# Altium footprint library RLC.PcbLib: 144 footprints (part 9 of 9)
Each footprint in its own frame and in the unit in brackets; x right, y up, seen from the top. Pads: shape width x height; smd on the part's side, far side on the other; paste and mask are expansions set on the pad; w line width, h text height; cw(c..) or ccw(c..) is an arc to the next point about the centre after c.
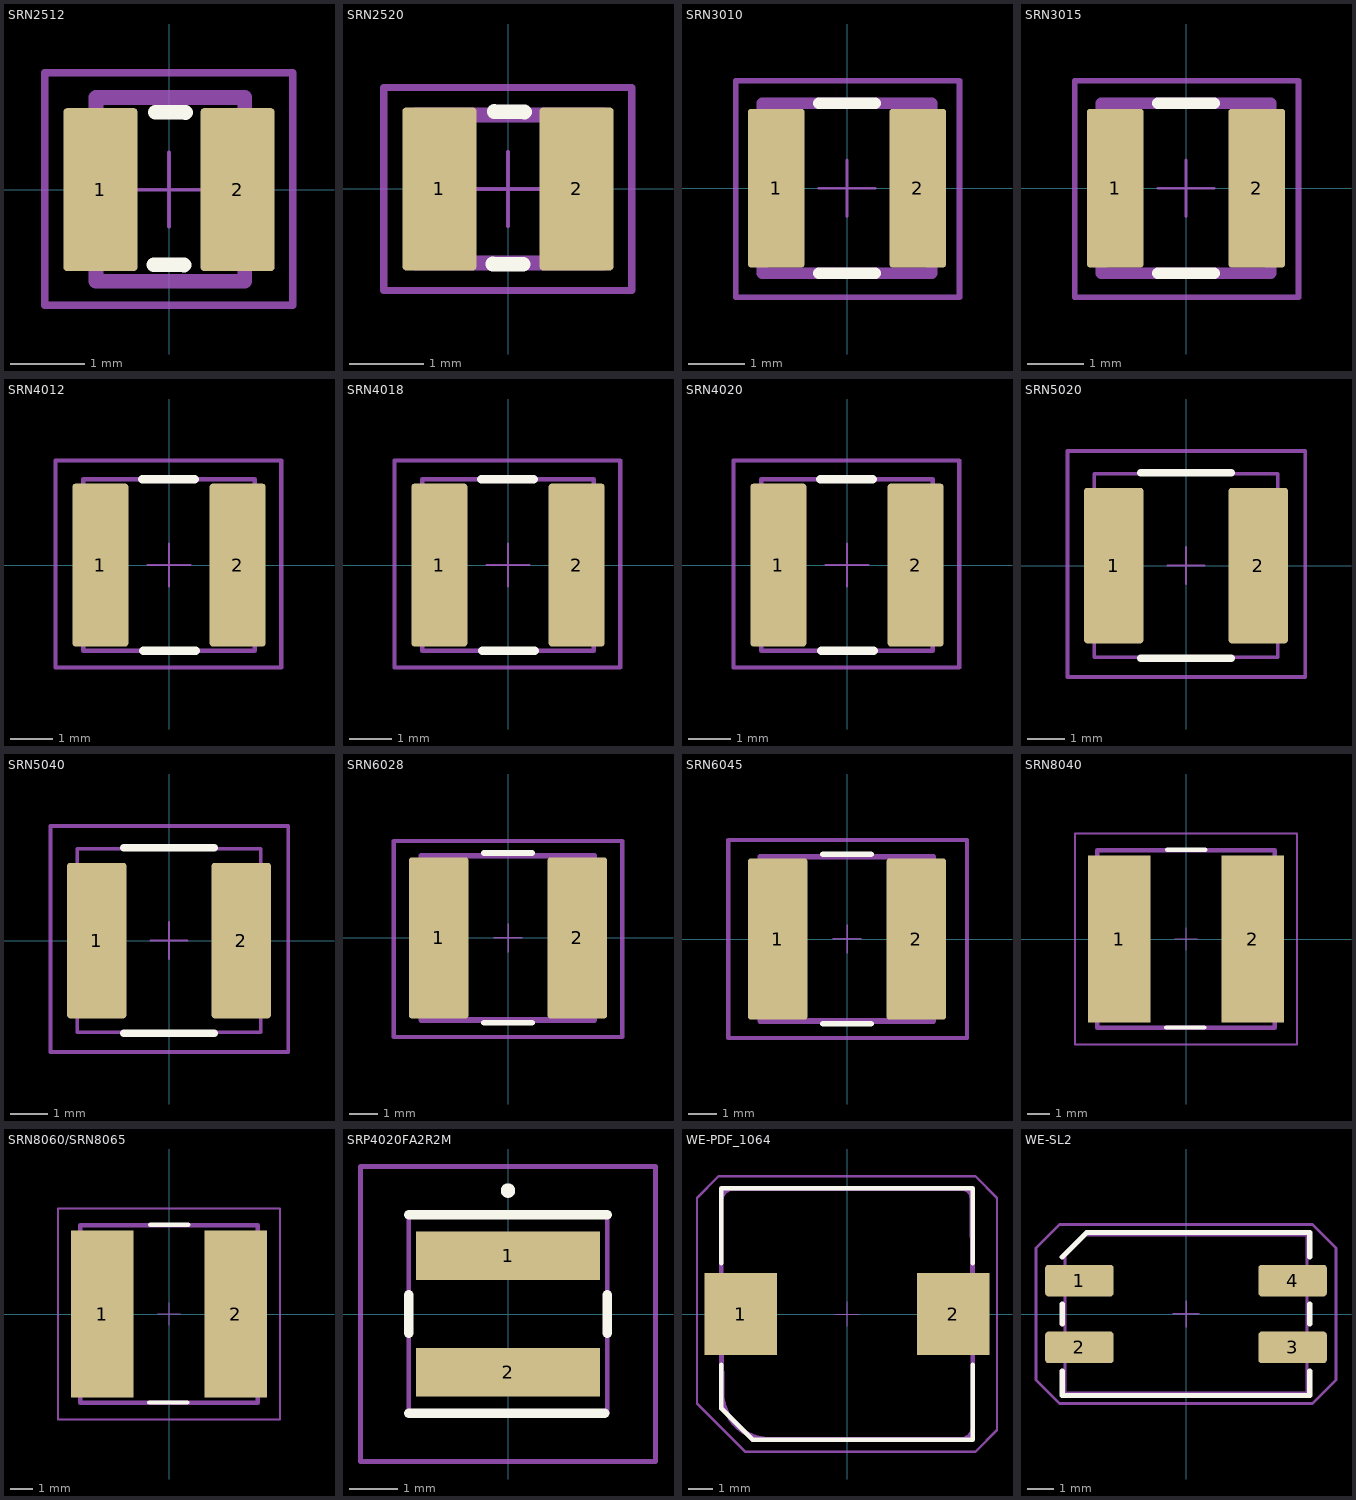
[diagram p8: the footprints below, top view; thin cyan lines are the x and y axes]

## SRN2512 [mm] "SMD 2.5?2.5?1.2 mm. magnetic-resin shielded power Inductor"
height 1.2
pads (2):
  rrect10% 1x2.2 smd: 1(-0.925,0) 2(0.925,0)
Top Overlay:
  lines w0.2: -0.206,-1.013 0.203,-1.016 ; -0.185,1.044 0.224,1.041
Top Designator:
  text ".Designator" at -2.994,1.987 h0.6
Top Assembly:
  lines w0.2: -0.983,-1.236 -0.983,1.245 1.022,1.245 1.022,-1.236 -0.983,-1.236
Top Courtyard:
  lines w0.05: -0.5,0 0.5,0 ; 0,-0.5 0,0.5
  lines w0.1: -1.676,-1.559 1.672,-1.559 1.672,1.575 -1.676,1.575 -1.676,-1.559
3D body "SRN2512-1R0M.stp": height 1.2, standoff 0, extent -1,-1.25 1,1.25

## SRN2520 [mm] "SMD 2.5?2.5?2.0 mm. magnetic-resin shielded power Inductor"
height 2
pads (2):
  rrect10% 1x2.2 smd: 1(-0.925,0) 2(0.925,0)
Top Overlay:
  lines w0.2: -0.206,-1.013 0.203,-1.016 ; -0.185,1.044 0.224,1.041
Top Designator:
  text ".Designator" at -2.989,1.837 h0.6
Top Assembly:
  lines w0.2: -1.241,-1 -1.241,1 1.285,1 1.285,-1 -1.241,-1
Top Courtyard:
  lines w0.05: -0.5,0 0.5,0 ; 0,-0.5 0,0.5
  lines w0.1: -1.676,-1.371 -1.676,1.369 1.672,1.369 1.672,-1.371 -1.676,-1.371
3D body "PNR2520 SMD Power Inductor.STEP": height 1.15, standoff -0.03, extent -1.25,-0.953 1.25,0.953

## SRN3010 [mm] "SMD 3.0?3.0?1.0 mm. magnetic-resin shielded power Inductor"
height 1
pads (2):
  rrect10% 1x2.8 smd: 1(-1.25,0) 2(1.25,0)
Top Overlay:
  lines w0.2: -0.5,-1.5 0.5,-1.5 ; -0.5,1.5 0.5,1.5
Top Designator:
  text ".Designator" at -3.033,2.408 h0.6
Top Assembly:
  lines w0.2: -1.5,-1.5 1.5,-1.5 1.5,1.5 -1.5,1.5 -1.5,-1.5
Top Courtyard:
  lines w0.05: -0.5,0 0.5,0 ; 0,-0.5 0,0.5
  lines w0.1: -1.966,-1.927 1.987,-1.927 1.987,1.899 -1.966,1.899 -1.966,-1.927
3D body "SRN3010-330M.stp": height 1.05, standoff 0.05, extent -1.501,-1.5 1.501,1.5

## SRN3015 [mm] "SMD 3.0?3.0?1.5 mm. magnetic-resin shielded power Inductor"
height 1.5
pads (2):
  rrect10% 1x2.8 smd: 1(-1.25,0) 2(1.25,0)
Top Overlay:
  lines w0.2: -0.5,-1.5 0.5,-1.5 ; -0.5,1.5 0.5,1.5
Top Designator:
  text ".Designator" at -3.033,2.408 h0.6
Top Assembly:
  lines w0.2: -1.5,-1.5 -1.5,1.5 1.5,1.5 1.5,-1.5 -1.5,-1.5
Top Courtyard:
  lines w0.05: -0.5,0 0.5,0 ; 0,-0.5 0,0.5
  lines w0.1: -1.966,-1.927 -1.966,1.899 1.987,1.899 1.987,-1.927 -1.966,-1.927
3D body "PNR3015 SMD Power Inductor.STEP": height 1.4, standoff 0.04, extent -1.5,-1.5 1.5,1.5

## SRN4012 [mm] "SMD 4.0?4.0?1.2 mm. magnetic-resin shielded power Inductor"
height 1.2
pads (2):
  rrect10% 1.3x3.8 smd: 1(-1.6,0) 2(1.6,0)
Top Overlay:
  lines w0.2: -0.624,2.004 0.605,2.004 ; -0.605,-2.004 0.624,-2.004
Top Designator:
  text ".Designator" at -2.999,2.8 h0.6
Top Assembly:
  lines w0.1: -2,-2 2,-2 2,2 -2,2 -2,-2
Top Courtyard:
  lines w0.05: -0.5,0 0.5,0 ; 0,-0.5 0,0.5
  lines w0.1: -2.648,-2.388 2.617,-2.388 2.617,2.439 -2.648,2.439 -2.648,-2.388
3D body "PNR4012 SMD Power Inductor.STEP": height 1.2, standoff 0.08, extent -2,-2 2,2

## SRN4018 [mm] "SMD 4.0?4.0?1.8 mm. magnetic-resin shielded power Inductor"
height 1.8
pads (2):
  rrect10% 1.3x3.8 smd: 1(-1.6,0) 2(1.6,0)
Top Overlay:
  lines w0.2: -0.624,2.004 0.605,2.004 ; -0.605,-2.004 0.624,-2.004
Top Designator:
  text ".Designator" at -2.999,2.8 h0.6
Top Assembly:
  lines w0.1: -2,-2 2,-2 2,2 -2,2 -2,-2
Top Courtyard:
  lines w0.05: -0.5,0 0.5,0 ; 0,-0.5 0,0.5
  lines w0.1: -2.648,-2.388 2.617,-2.388 2.617,2.439 -2.648,2.439 -2.648,-2.388
3D body "PNR4018 SMD Power Inductor.STEP": height 1.85, standoff 0.05, extent -2,-2 2,2

## SRN4020 [mm] "SMD 4.0?4.0?2.0 mm. magnetic-resin shielded power Inductor"
height 2
pads (2):
  rrect10% 1.3x3.8 smd: 1(-1.6,0) 2(1.6,0)
Top Overlay:
  lines w0.2: -0.624,2.004 0.605,2.004 ; -0.605,-2.004 0.624,-2.004
Top Designator:
  text ".Designator" at -2.999,2.8 h0.6
Top Assembly:
  lines w0.1: -2,-2 -2,2 2,2 2,-2 -2,-2
Top Courtyard:
  lines w0.05: -0.5,0 0.5,0 ; 0,-0.5 0,0.5
  lines w0.1: -2.648,-2.388 -2.648,2.439 2.617,2.439 2.617,-2.388 -2.648,-2.388
3D body "PNR4020 SMD Power Inductor.STEP": height 1.65, standoff 0.04, extent -2,-2 2,2

## SRN5020 [mm] "SMD 5.0?5.0?2.0 mm. magnetic-resin shielded power Inductor"
height 2
pads (2):
  rrect10% 1.6x4.2 smd: 1(-1.95,0) 2(1.95,0)
Top Overlay:
  lines w0.2: -1.229,-2.5 1.229,-2.5 ; -1.229,2.5 1.229,2.5
Top Designator:
  text ".Designator" at -2.999,3.55 h0.6
Top Assembly:
  lines w0.1: -2.475,-2.475 2.475,-2.475 2.475,2.475 -2.475,2.475 -2.475,-2.475
Top Courtyard:
  lines w0.05: -0.5,0 0.5,0 ; 0,-0.5 0,0.5
  lines w0.1: -3.202,-3.009 3.217,-3.009 3.217,3.092 -3.202,3.092 -3.202,-3.009
3D body "SRN5020-100M.stp": height 2.1, standoff 0.1, extent -2.5,-2.5 2.5,2.5

## SRN5040 [mm] "SMD 5.0?5.0?4.0 mm. magnetic-resin shielded power Inductor"
height 4
pads (2):
  rrect10% 1.6x4.2 smd: 1(-1.95,0) 2(1.95,0)
Top Overlay:
  lines w0.2: -1.229,-2.5 1.229,-2.5 ; -1.229,2.5 1.229,2.5
Top Designator:
  text ".Designator" at -2.999,3.55 h0.6
Top Assembly:
  lines w0.1: -2.475,-2.475 2.475,-2.475 2.475,2.475 -2.475,2.475 -2.475,-2.475
Top Courtyard:
  lines w0.05: -0.5,0 0.5,0 ; 0,-0.5 0,0.5
  lines w0.1: -3.202,-3.009 3.217,-3.009 3.217,3.092 -3.202,3.092 -3.202,-3.009
3D body "PNR5040 SMD Power Inductor.STEP": height 3.5, standoff 0.06, extent -2.5,-2.51 2.502,2.51

## SRN6028 [mm] "SMD 6.0?6.0?2.8 mm. magnetic-resin shielded power Inductor"
height 2.8
pads (2):
  rrect10% 2.1x5.7 smd: 1(-2.45,0) 2(2.45,0)
Top Overlay:
  lines w0.2: -0.85,-3 0.85,-3 ; -0.85,3 0.85,3
Top Designator:
  text ".Designator" at -2.999,4.05 h0.6
Top Assembly:
  lines w0.2: -3.07,-2.899 3.05,-2.899 3.05,2.902 -3.07,2.902 -3.07,-2.899
Top Courtyard:
  lines w0.05: -0.5,0 0.5,0 ; 0,-0.5 0,0.5
  lines w0.15: -4.041,-3.5 4.036,-3.5 4.036,3.423 -4.041,3.423 -4.041,-3.5
3D body "PNR6028 SMD Power Inductor.STEP": height 2.7, standoff 0.1, extent -3,-3 3,3

## SRN6045 [mm] "SMD 6.0?6.0?4.5 mm. magnetic-resin shielded power Inductor"
height 4.5
pads (2):
  rrect10% 2.1x5.7 smd: 1(-2.45,0) 2(2.45,0)
Top Overlay:
  lines w0.2: -0.85,-3 0.85,-3 ; -0.85,3 0.85,3
Top Designator:
  text ".Designator" at -2.999,4.05 h0.6
Top Assembly:
  lines w0.2: -3.07,-2.899 3.05,-2.899 3.05,2.902 -3.07,2.902 -3.07,-2.899
Top Courtyard:
  lines w0.05: -0.5,0 0.5,0 ; 0,-0.5 0,0.5
  lines w0.15: -4.198,-3.5 4.239,-3.5 4.239,3.5 -4.198,3.5 -4.198,-3.5
3D body "PNR6045 SMD Power Inductor.STEP": height 4.1, standoff 0.05, extent -3,-2.99 3,3.005

## SRN8040 [mm] "SMD 8.0?8.0?4.0 mm. magnetic-resin shielded power Inductor"
height 4
pads (2):
  rect 2.8x7.5 smd: 1(-3,0) 2(3,0)
Top Overlay:
  lines w0.2: -0.884,-3.983 0.816,-3.983 ; -0.843,4.016 0.857,4.016
Top Designator:
  text ".Designator" at -2.999,5.3 h0.6
Top Assembly:
  lines w0.2: -4,-4 -4,4 4,4 4,-4 -4,-4
Top Courtyard:
  lines w0.05: -0.5,0 0.5,0 ; 0,-0.5 0,0.5
  lines w0.1: -5,-4.75 -5,4.75 5,4.75 5,-4.75 -5,-4.75
3D body "PNR8040 SMD Power Inductor.STEP": height 4.1, standoff 0.1, extent -4,-4 4,4

## SRN8060/SRN8065 [mm] "SMD 8.0?8.0?6.5 mm. magnetic-resin shielded power Inductor"
height 6.5
pads (2):
  rect 2.8x7.5 smd: 1(-3,0) 2(3,0)
Top Overlay:
  lines w0.2: -0.884,-3.983 0.816,-3.983 ; -0.843,4.016 0.857,4.016
Top Designator:
  text ".Designator" at -2.999,5.3 h0.6
Top Assembly:
  lines w0.2: -4,-4 -4,4 4,4 4,-4 -4,-4
Top Courtyard:
  lines w0.05: -0.5,0 0.5,0 ; 0,-0.5 0,0.5
  lines w0.1: -5,-4.75 -5,4.75 5,4.75 5,-4.75 -5,-4.75
3D body "PNR8065 SMD Power Inductor.STEP": height 4.3, standoff 0.1, extent -4,-4 4,4

## SRP4020FA2R2M [mm]
pads (2):
  rect 3.8x1 smd: 1(0,1.2) 2(0,-1.2)
Top Overlay:
  lines w0.2: -2.05,-2.05 2,-2.05 ; -2.05,-0.4 -2.05,0.4 ; -2.05,2.05 2.05,2.05 ; 2.05,-0.4 2.05,0 ; 2.05,-0.2 2.05,0.4 ; 0,2.5 ccw(c0,2.55) 0,2.6 ; 0,2.5 cw(c0,2.55) 0,2.6 ; 0,2.5 ccw(c0,2.55) 0,2.6
Top Assembly:
  lines w0.1: -2.05,-2.05 -2.05,2.05 2.05,2.05 2.05,-2.05 -2.05,-2.05
Top Courtyard:
  lines w0.1: -3.05,-3.05 -3.05,3.05 3.05,3.05 3.05,-3.05 -3.05,-3.05
3D body "SRP4020FA-2R2M.stp": height 1.91, standoff 0, extent -2.05,-2.05 2.05,2.05

## WE-PDF_1064 [mm]
pads (2):
  rect 3x3.4 smd: 1(-4.4,0) 2(4.4,0)
Top Overlay:
  lines w0.2: -5.2,-2.1 -5.2,-3.9 -3.9,-5.2 5.2,-5.2 5.2,-2.1 ; -5.2,2.1 -5.2,5.2 5.2,5.2 5.2,2.1
Top Designator:
  text ".Designator" at -2.999,6.2 h0.6
Top Assembly:
  lines w0.2: -5.436,-1.5 -5.183,-1.5 -5.168,-3.219 ccw(c-3.205,-3.219) -3.205,-5.182 4.726,-5.183 ccw(c4.726,-4.709) 5.2,-4.709 5.2,-1.49 5.429,-1.49 5.429,1.5 5.183,1.5 5.155,4.804 ccw(c4.776,4.804) 4.776,5.182 -4.726,5.183 ccw(c-4.726,4.709) -5.2,4.709 -5.2,1.5 -5.436,1.5 -5.436,-1.5
Top Courtyard:
  lines w0.05: -0.5,0 0.5,0 ; 0,-0.5 0,0.5
  lines w0.1: -6.2,-3.7 -4.2,-5.7 5.3,-5.7 6.2,-4.8 6.2,4.8 5.3,5.7 -5.3,5.7 -6.2,4.8 -6.2,-3.7
3D body "step_temp.STEP": height 6.45, standoff 0.05, extent -5.1,-5.1 5.1,5.1

## WE-SL2 [mm]
pads (4):
  rrect20% 2.6x1.2 smd: 1(-4.05,1.27) 2(-4.05,-1.27) 3(4.05,-1.27) 4(4.05,1.27)
Top Overlay:
  lines w0.2: -4.7,-2.17 -4.7,-3.1 4.7,-3.1 4.7,-2.17 ; -4.7,-0.37 -4.7,0.37 ; -4.7,2.17 -3.77,3.1 4.7,3.1 4.7,2.17 ; 4.7,-0.37 4.7,0.37
Top Designator:
  text ".Designator" at -3.099,3.9 h0.6
Top Assembly:
  lines w0.1: -4.6,-3 4.6,-3 4.6,3 -3.8,3 -4.6,2.2 -4.6,-3
Top Courtyard:
  lines w0.05: -0.5,0 0.5,0 ; 0,-0.5 0,0.5
  lines w0.1: -5.7,-2.5 -4.8,-3.4 4.8,-3.4 5.7,-2.5 5.7,2.5 4.8,3.4 -4.8,3.4 -5.7,2.5 -5.7,-2.5
3D body "WE-SL2_74422+%28rev1%29.stp": height 5, standoff 0, extent -4.6,-3 4.6,3